# EAGLE library part ESP-13 (library IC-ESP)
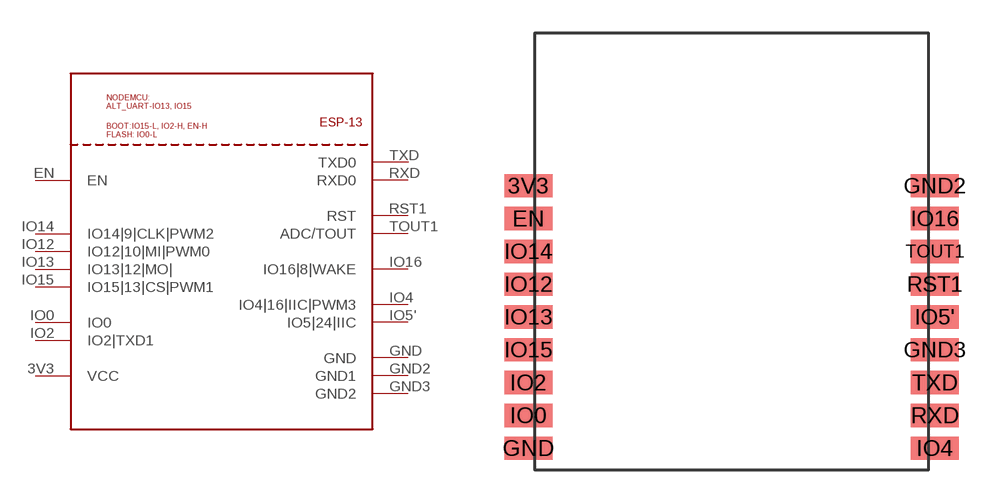
[diagram p20: symbol with the pads of ESP-13; footprint ESP-13]

Designator prefix -

## ESP-13  [ESP-13]
3V3  VCC
EN  EN
GND  GND
GND2  GND1
GND3  GND2
IO0  IO0
IO2  IO2|TXD1
IO4  IO4|16|IIC|PWM3
IO5'  IO5|24|IIC
IO12  IO12|10|MI|PWM0
IO13  IO13|12|MO|
IO14  IO14|9|CLK|PWM2
IO15  IO15|13|CS|PWM1
IO16  IO16|8|WAKE
RST1  RST
RXD  RXD0
TOUT1  ADC/TOUT
TXD  TXD0

## Footprint ESP-13 (pad centres in mm)
smd 2.184 x 1.067: 3V3 -9.3,3; EN -9.3,1.5; GND -9.3,-9; GND2 9.3,3; GND3 9.3,-4.5; IO0 -9.3,-7.5; IO2 -9.3,-6; IO4 9.3,-9; IO5' 9.3,-3; IO12 -9.3,-1.5; IO13 -9.3,-3; IO14 -9.3,0; IO15 -9.3,-4.5; IO16 9.3,1.5; RST1 9.3,-1.5; RXD 9.3,-7.5; TOUT1 9.3,0; TXD 9.3,-6